# Altium schematic symbol library Copter.SchLib: 31 symbols
Pins are listed as number, name and electrical type; pins without a type are passive.

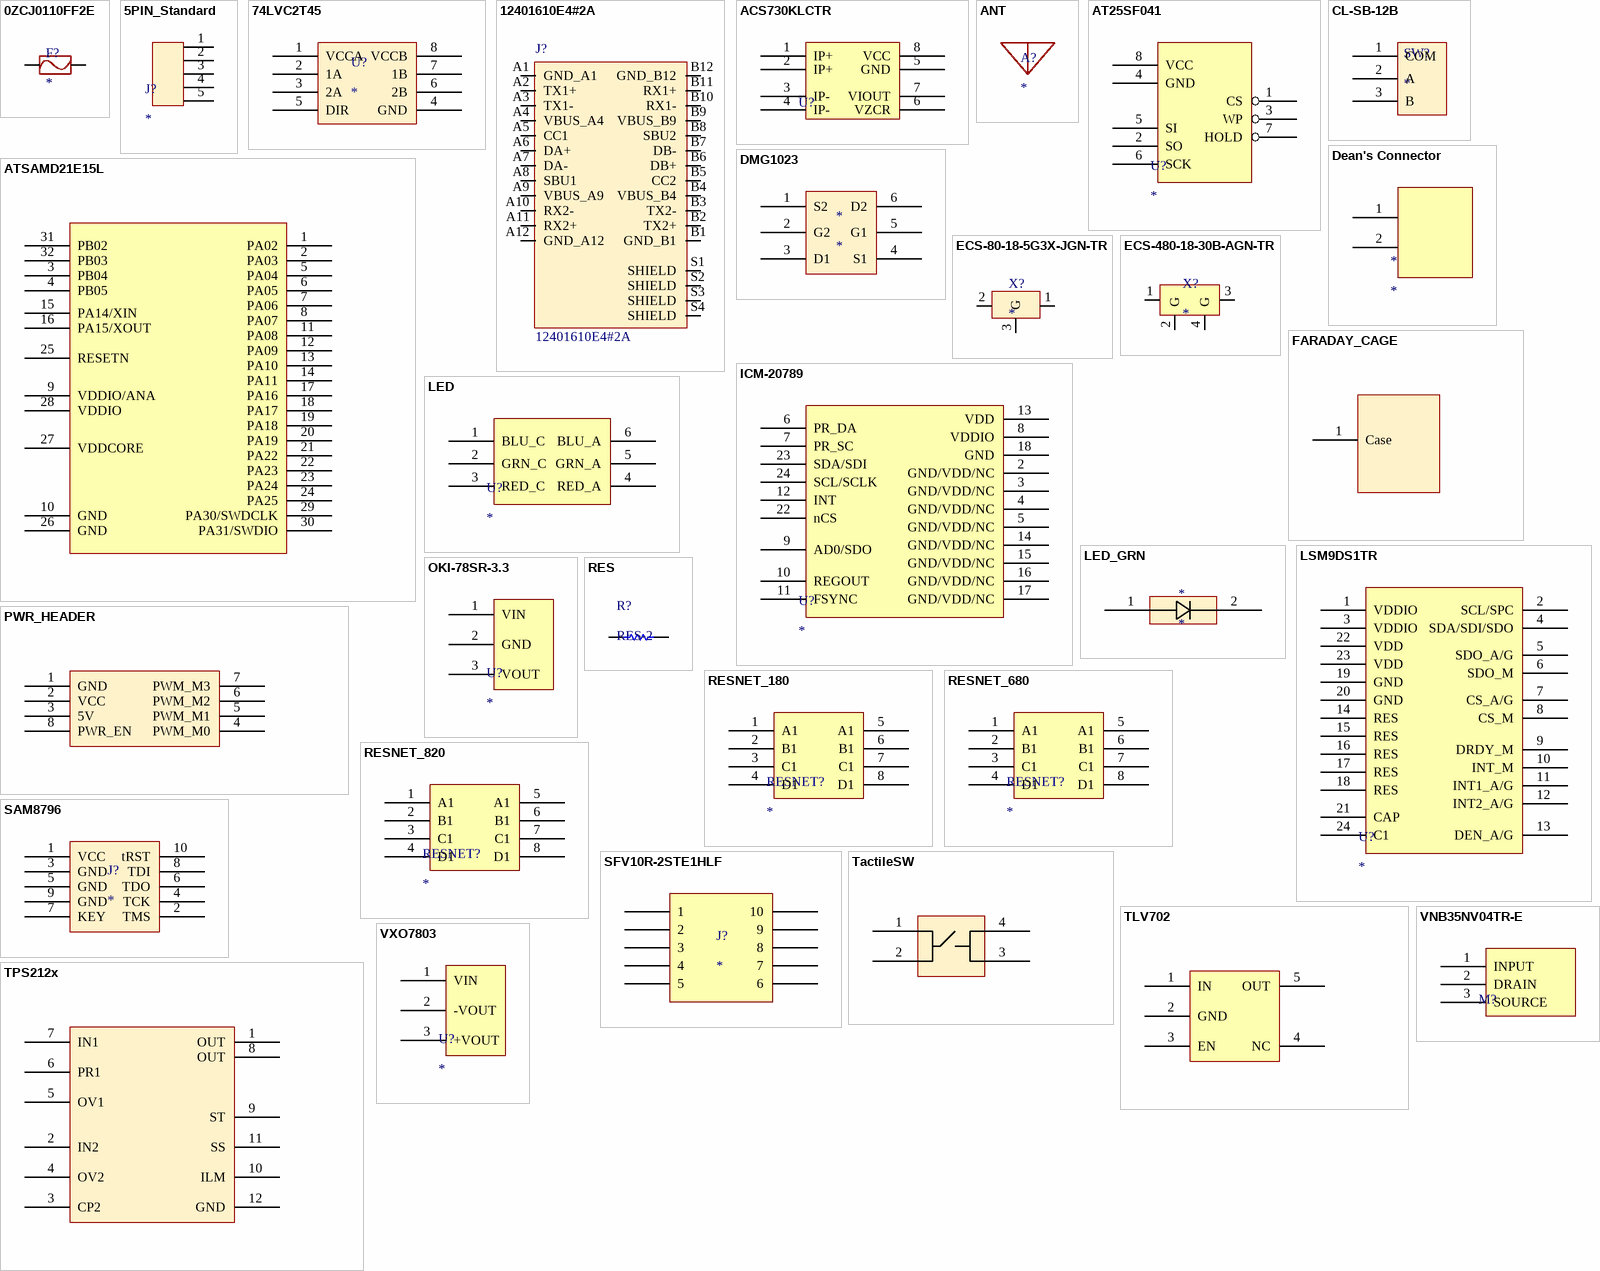
[diagram p0: symbols 0ZCJ0110FF2E to VXO7803]

## 0ZCJ0110FF2E
designator F?
PTC RESET FUSE 8V 1.1A 1206; ComponentLink1Description: DigiKey; ComponentLink1URL: https://www.digikey.com/product-detail/en/bel-fuse-inc/0ZCJ0075AF2E/507-1805-1-ND/
footprint RESC4019X10N (Chip Resistor, 2-Leads, Body 4.00x1.90mm, IPC Medium Density)
pins: 1, 2 *

## 5PIN_Standard
designator J?
pins: 1 A, 2 A, 3 A, 4 A, 5 A

## 74LVC2T45
designator U?
74LVC2T45
pins: 1 VCCA, 2 1A, 3 2A, 4 GND, 5 DIR, 6 2B, 7 1B, 8 VCCB

## 12401610E4#2A
designator J?
Conn USB Type C Surface Mount Receptacle; MF: Amphenol ICC; Digi-Key_Purchase_URL: https://www.digikey.com/product-detail/en/amphenol-icc-commercial-products/12401610E4-2A/12401610E4-2ACT-ND/5775520?utm_source=snapeda&utm_medium=aggregator&utm_campaign=symbol; Digi-Key_Part_Number: 12401610E4#2ACT-ND; Package: None; SnapEDA_Link: https://www.snapeda.com/parts/12401610E4%232A/Amphenol%20ICC/view-part/?ref=snap; MP: 12401610E4#2A; Value: *
footprint AMPHENOL_12401610E4_2A_12401610E4
pins: A1 GND_A1, A2 TX1+, A3 TX1-, A4 VBUS_A4, A5 CC1, A6 DA+, A7 DA-, A8 SBU1, A9 VBUS_A9, A10 RX2-, A11 RX2+, A12 GND_A12, B1 GND_B1, B2 TX2+, B3 TX2-, B4 VBUS_B4, B5 CC2, B6 DB+, B7 DB-, B8 SBU2, B9 VBUS_B9, B10 RX1-, B11 RX1+, B12 GND_B12, S1 SHIELD, S2 SHIELD, S3 SHIELD, S4 SHIELD

## ACS730KLCTR
designator U?  (value not drawn)
Current Sensor 50A 1 Channel Hall Effect, Open Loop Bidirectional 8-SOIC (0.154", 3.90mm Width); ComponentLink1Description: DigiKey; ComponentLink1URL: https://www.digikey.com/product-detail/en/allegro-microsystems-llc/ACS730KLCTR-50AB-T/620-1794-1-ND/
footprint 8SOIC
footprint SOIC127P600X175-8N (SOIC, 8-Leads, Body 4.93x3.90mm, Pitch 1.27mm, IPC Medium Density)
pins: 1 IP+, 2 IP+, 3 IP-, 4 IP-, 5 GND, 6 VZCR, 7 VIOUT, 8 VCC

## ANT
designator A?
footprint ANT
pins: 1 9

## AT25SF041
designator U?
IC FLASH 4M SPI 104MHZ 8SOIC; ComponentLink1Description: DigiKey; ComponentLink1URL: https://www.digikey.com/product-detail/en/adesto-technologies/AT25SF041-SSHD-T/1265-1131-1-ND/
footprint 8SOIC
footprint SOIC127P600X175-8N (SOIC, 8-Leads, Body 4.93x3.90mm, Pitch 1.27mm, IPC Medium Density)
pins: 1 CS, 2 SO, 3 WP, 4 GND, 5 SI, 6 SCK, 7 HOLD, 8 VCC

## ATSAMD21E15L
designator U?
pins: 1 PA02, 2 PA03, 3 PB04, 4 PB05, 5 PA04, 6 PA05, 7 PA06, 8 PA07, 9 VDDIO/ANA, 10 GND, 11 PA08, 12 PA09, 13 PA10, 14 PA11, 15 PA14/XIN, 16 PA15/XOUT, 17 PA16, 18 PA17, 19 PA18, 20 PA19, 21 PA22, 22 PA23, 23 PA24, 24 PA25, 25 RESETN, 26 GND, 27 VDDCORE, 28 VDDIO, 29 PA30/SWDCLK, 30 PA31/SWDIO, 31 PB02, 32 PB03

## CL-SB-12B
designator SW?
footprint CL-SB-12B
pins: 1 COM, 2 A, 3 B

## Dean's Connector
designator *
footprint DEAN_CONN
pins: 1 (power), 2 (power)

## DMG1023
designator *
pins: 1 S2, 2 G2, 3 D1, 4 S1, 5 G1, 6 D2

## ECS-80-18-5G3X-JGN-TR
designator X?
pins: 1 IN/OUT, 2 IN/OUT, 3 G

## ECS-480-18-30B-AGN-TR
designator X?
pins: 1 XIN, 2 G, 3 XOUT, 4 G

## FARADAY_CAGE
designator F?, comment Faraday Cage
pins: 1 Case

## ICM-20789
designator U?
MOTION SENSOR IC; ComponentLink1Description: DigiKey; ComponentLink1URL: https://www.digikey.com/product-detail/en/tdk-invensense/ICM-20789/1428-1133-6-ND/
footprint 24LGA
pins: 2 GND/VDD/NC, 3 GND/VDD/NC, 4 GND/VDD/NC, 5 GND/VDD/NC, 6 PR_DA, 7 PR_SC, 8 VDDIO, 9 AD0/SDO, 10 REGOUT, 11 FSYNC, 12 INT, 13 VDD, 14 GND/VDD/NC, 15 GND/VDD/NC, 16 GND/VDD/NC, 17 GND/VDD/NC, 18 GND, 22 nCS, 23 SDA/SDI, 24 SCL/SCLK

## LED
designator U?
footprint PLCC6
pins: 1 BLU_C, 2 GRN_C, 3 RED_C, 4 RED_A, 5 GRN_A, 6 BLU_A

## LED_GRN
designator *
footprint DIOC3212X08N (Chip Diode, 2-Leads, Body 3.20x1.20mm, IPC Medium Density)
pins: 1 Anode, 2 Cathode

## LSM9DS1TR
designator U?
IMU ACCEL/GYRO/MAG I2C/SPI 24LGA; ComponentLink1Description: DigiKey; ComponentLink1URL: https://www.digikey.com/product-detail/en/stmicroelectronics/LSM9DS1TR/497-14946-1-ND/
footprint 24LGA_Elongated
pins: 1 VDDIO, 2 SCL/SPC, 3 VDDIO, 4 SDA/SDI/SDO, 5 SDO_A/G, 6 SDO_M, 7 CS_A/G, 8 CS_M, 9 DRDY_M, 10 INT_M, 11 INT1_A/G, 12 INT2_A/G, 13 DEN_A/G, 14 RES, 15 RES, 16 RES, 17 RES, 18 RES, 19 GND, 20 GND, 21 CAP, 22 VDD, 23 VDD, 24 C1

## OKI-78SR-3.3
designator U?
Linear Regulator Replacement DC DC Converter 1 Output 3.3V    1.5A 7V - 36V Input; ComponentLink1Description: DigiKey; ComponentLink1URL: https://www.digikey.com/product-detail/en/murata-power-solutions-inc/OKI-78SR-3.3-1.5-W36H-C/811-3014-ND/
footprint OKI-78SR-3.3 (Linear Regulator Replacement DC DC Converter 1 Output 3.3V    1.5A 7V - 36V Input)
pins: 1 VIN, 2 GND, 3 VOUT

## PWR_HEADER
designator J?
pins: 1 GND, 2 VCC, 3 5V, 4 PWM_M0, 5 PWM_M1, 6 PWM_M2, 7 PWM_M3, 8 PWR_EN

## RES
designator R?, comment RES-2
footprint RES 0402 (Chip Resistor, 2-Leads, Body 1.00x0.50mm, IPC Medium Density)
footprint 0805 Resistor
pins: 1, 2

## RESNET_180
designator RESNET?
RES ARRAY 4 RES 180 OHM 2012; ComponentLink1Description: DigiKey; ComponentLink1URL: https://www.digikey.com/product-detail/en/cts-resistor-products/744C083681JP/744C083681JPCT-ND/
footprint 74X_RESNET
footprint CAC-80P320X165-8N (Chip Array, Concave, 8-Leads, Pitch 0.80mm,  Body 3.20x1.65mm,  IPC Medium Density)
pins: 1 A1, 2 B1, 3 C1, 4 D1, 5 A1, 6 B1, 7 C1, 8 D1

## RESNET_680
designator RESNET?
RES ARRAY 4 RES 680 OHM 2012; ComponentLink1Description: DigiKey; ComponentLink1URL: https://www.digikey.com/product-detail/en/cts-resistor-products/744C083681JP/744C083681JPCT-ND/
footprint 74X_RESNET
footprint CAC-80P320X165-8N (Chip Array, Concave, 8-Leads, Pitch 0.80mm,  Body 3.20x1.65mm,  IPC Medium Density)
pins: 1 A1, 2 B1, 3 C1, 4 D1, 5 A1, 6 B1, 7 C1, 8 D1

## RESNET_820
designator RESNET?
RES ARRAY 4 RES 820 OHM 2012; ComponentLink1Description: DigiKey; ComponentLink1URL: https://www.digikey.com/product-detail/en/cts-resistor-products/744C083681JP/744C083681JPCT-ND/
footprint 74X_RESNET
pins: 1 A1, 2 B1, 3 C1, 4 D1, 5 A1, 6 B1, 7 C1, 8 D1

## SAM8796
designator J?
pins: 1 VCC, 2 TMS, 3 GND, 4 TCK, 5 GND, 6 TDO, 7 KEY, 8 TDI, 9 GND, 10 tRST

## SFV10R-2STE1HLF
designator J?
footprint SVF10R-2STE1HLF
pins: 1, 2, 3, 4, 5, 6, 7, 8, 9, 10

## TactileSW
designator S?, comment DMG1023  (value not drawn)
pins: 1, 2, 3, 4

## TLV702
designator U?, comment TLV70218DBVT
pins: 1 IN, 2 GND, 3 EN, 4 NC, 5 OUT

## TPS212x
designator U?
PWR MGMT BATTERY MGMT
pins: 1 OUT, 2 IN2, 3 CP2, 4 OV2, 5 OV1, 6 PR1, 7 IN1, 8 OUT, 9 ST, 10 ILM, 11 SS, 12 GND

## VNB35NV04TR-E
designator M?  (value not drawn)
MOSFET OMNIFETII 40V 30A D2PAK; ComponentLink1Description: DigiKey; ComponentLink1URL: https://www.digikey.com/product-detail/en/stmicroelectronics/VNB35NV04TR-E/497-11686-1-ND/
footprint DPAK508P1542X460-3N
pins: 1 INPUT, 2 DRAIN, 3 SOURCE

## VXO7803
designator U?
footprint VXO78-1000
pins: 1 VIN, 2 -VOUT, 3 +VOUT